# EAGLE library part S203 (library F-UL489)
ABB S203xxxxx • Current limiting • Fast breaking time (2.5 – 3.5 msec) • Unique bus connection system • Wide range of accessories • Available with variable depth handle mechanism • Optional Z curve for SCR protection • CE certified and marked • DIN rail or front panel mounting • Finger safe terminals • Multi-function terminals • Suitable for reverse feed • 480Y/277VAC and 500VDC versions B 3 - 5X 1.13 1.45X S200, S500 C 5 - 10X 1.13 1.45X S200, S290, S500 D 10 - 20X 1.13 1.45X S200, S500 K 8 - 12X 1.05 1.20X S200, S500 Z 2 - 3X 1.05 1.20X S200
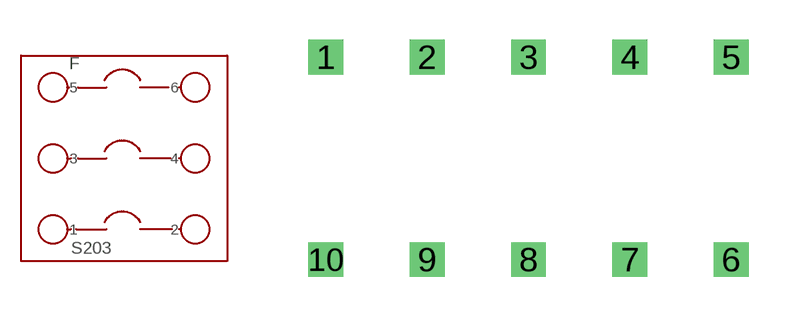
[diagram p0: symbol with the pads of NA-10; footprint NA-10]

Designator prefix F

## S203U-K10  [NA-10]
1  3
2  4
3  5
4  6
5  1
6  2

## Footprint NA-10 (pad centres in mm)
drill 0.8 square: 1 -7.62,3.81; 2 -3.81,3.81; 3 0,3.81; 4 3.81,3.81; 5 7.62,3.81; 6 7.62,-3.81; 7 3.81,-3.81; 8 0,-3.81; 9 -3.81,-3.81; 10 -7.62,-3.81